# Altium schematic symbol library battery.SchLib: 21 symbols
Pins are listed as number, name and electrical type; pins without a type are passive.

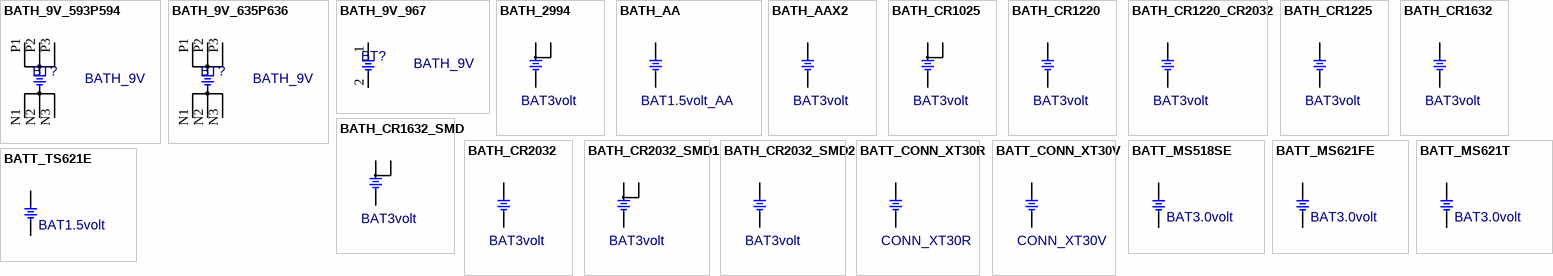
[diagram p0: symbols BATH_9V_593P594 to BATT_TS621E]

## BATH_9V_593P594
designator BT?, comment BATH_9V
BATTERY HOLDER, 9v; MANF_P#: 593, 594; MANF: Keystone; .: http://www.chila.ir; VALUE: BATH_9V
footprint BTH_9V_593P594 (BATTERY HOLDER, keystone 593, 594)
pins: N1, N2, N3, P1, P2, P3

## BATH_9V_635P636
designator BT?, comment BATH_9V
BATTERY HOLDER, 9v; MANF_P#: 635, 636; MANF: Keystone; .: http://www.chila.ir; VALUE: BATH_9V
footprint BTH_9V_635P636 (BATTERY HOLDER, keystone 635, 636)
pins: N1, N2, N3, P1, P2, P3

## BATH_9V_967
designator BT?, comment BATH_9V
BATTERY HOLDER, 9v; MANF_P#: 967; MANF: Keystone; .: http://www.chila.ir; VALUE: BATH_9V
footprint BTH_9V_967 (BATTERY HOLDER, keystone 967)
pins: 1, 2

## BATH_2994
designator BT?, comment BAT3volt
BATTERY HOLDER, 2994 COIN CELL 4.8mm; MANF_P#: 2994; MANF: KEYSTONE; .: http://www.chila.ir; VALUE: BAT3volt
footprint BTH2994 (BUTTON CELL BATTERY RETAINER 2994)
pins: 1, 2, 2

## BATH_AA
designator BT?, comment BAT1.5volt_AA
BATTERY HOLDER, AA; MANF_P#: Keystone 82; .: http://www.chila.ir; VALUE: BAT1.5volt_AA
footprint BTH_AA (Keystone 82)
footprint BTH_AA_2
pins: 1, 2

## BATH_AAX2
designator BT?, comment BAT3volt
BATTERY HOLDER, AA DUAL; MANF_P#: -; .: http://www.chila.ir; VALUE: BAT3volt
footprint BTH_AAX2 (2-cell AA battery holder)
pins: 1, 2

## BATH_CR1025
designator BT?, comment BAT3volt
BATTERY HOLDER, CR2032 SMD; MANF_P#: keystone 3050TR, MY-1025-01; .: http://www.chila.ir; VALUE: BAT3volt
footprint BTH1025_SMD (Battery Holder for CR1025, and CR927, keystone 3050TR)
pins: 1 P1, 2 N, 3 P2

## BATH_CR1220
designator BT?, comment BAT3volt
BATTERY HOLDER, CR1220; MANF_P#: -; .: http://www.chila.ir; VALUE: BAT3volt
footprint BTH1220 (COIN CELL BATTERY HOLDER 1220 12mm)
pins: 1, 2

## BATH_CR1220_CR2032
designator BT?, comment BAT3volt
BATTERY HOLDER, CR1220/CR2032; MANF_P#: -; .: http://www.chila.ir; VALUE: BAT3volt
footprint BTH1220_2032 (COIN CELL BATTERY HOLDER 1220 12mm CR2032)
pins: 1, 2

## BATH_CR1225
designator BT?, comment BAT3volt
BATTERY HOLDER, CR1225; MANF_P#: -; .: http://www.chila.ir; VALUE: BAT3volt
footprint BTH1225_SMD (Battery Holder CR1216, CR1220, CR1225,  BK-885)
pins: 1, 2

## BATH_CR1632
designator BT?, comment BAT3volt
BATTERY HOLDER, CR1632 CR1620 CR1616; MANF_P#: BH600; .: http://www.chila.ir; VALUE: BAT3volt
footprint BTH1632_BH600 (Battery Holder BH600 CR1632 CR1620 CR1616)
pins: 1, 2

## BATH_CR1632_SMD
designator BT?, comment BAT3volt
BATTERY HOLDER, CR1632 CR1620 CR1616; MANF_P#: BH600; .: http://www.chila.ir; VALUE: BAT3volt
footprint BTH1632_SMD (Battery Holder CR1632, KEYSTONE 3012TR or 3013)
pins: 1 P1, 2 N, 3 P2

## BATH_CR2032
designator BT?, comment BAT3volt
BATTERY HOLDER, CR2032; MANF_P#: -; .: http://www.chila.ir; VALUE: BAT3volt
footprint BTH2032 (CR2032 BATTERY HOLDER)
pins: 1, 2

## BATH_CR2032_SMD1
designator BT?, comment BAT3volt
BATTERY HOLDER, CR2032 SMD; MANF_P#: -; .: http://www.chila.ir; VALUE: BAT3volt
footprint BTH2032_SMD1 (COIN CELL BATTERY HOLDER 2032 20mm KEYSTONE3002)
pins: 1 P1, 2 N, 3 P2

## BATH_CR2032_SMD2
designator BT?, comment BAT3volt
BATTERY HOLDER, CR2032 SMD; MANF_P#: -; .: http://www.chila.ir; VALUE: BAT3volt
footprint BTH2032_SMD2
pins: 1, 2

## BATT_CONN_XT30R
designator BT?, comment CONN_XT30R
BATTERY, CONN_XT30R; MANF: SEIKO; MANF_P#: -; MANF_P#2: -; .: http://www.chila.ir; PARAM: -; PARAM2: -; VALUE: CONN_XT30R
footprint BT_CONN_XT30R (BATTERY CONN XT30)
pins: 1, 2

## BATT_CONN_XT30V
designator BT?, comment CONN_XT30V
BATTERY, CONN_XT30V; MANF: SEIKO; MANF_P#: -; MANF_P#2: -; .: http://www.chila.ir; PARAM: -; PARAM2: -; VALUE: CONN_XT30V
footprint BT_CONN_XT30V (BATTERY CONN XT30)
pins: 1, 2

## BATT_MS518SE
designator BT?, comment BAT3.0volt
BATTERY, Lithium, Rechargeable, 6.8mm; MANF_P#: MS518SE; MANF: SEIKO; PARAM: 3.4mAH, 10uA charge/discharge; PARAM2: 3V, -20~60°C; .: http://www.chila.ir; VALUE: BAT3.0volt
footprint BT_XS518 (BATTERY SEIKO, MS518FE TS518FE, 5.8x1.8)
pins: 1, 2

## BATT_MS621FE
designator BT?, comment BAT3.0volt
BATTERY, Lithium, Rechargeable, 6.8mm; MANF_P#: MS621FE; MANF: SEIKO; PARAM: 5.5mAH, 15uA charge/discharge; PARAM2: 3V, -20~60°C; .: http://www.chila.ir; VALUE: BAT3.0volt
footprint BT_XS621 (BATTERY SEIKO,MS621FE, MS621T, TS621E, TS621FE  6.8x2.1mm)
pins: 1, 2

## BATT_MS621T
designator BT?, comment BAT3.0volt
BATTERY, Lithium, Rechargeable, 6.8mm; MANF_P#: MS621T; MANF: SEIKO; PARAM: 3mAH, 15uA charge/discharge; PARAM2: 3V, -40~85°C; .: http://www.chila.ir; VALUE: BAT3.0volt
footprint BT_XS621 (BATTERY SEIKO,MS621FE, MS621T, TS621E, TS621FE  6.8x2.1mm)
pins: 1, 2

## BATT_TS621E
designator BT?, comment BAT1.5volt
BATTERY, Lithium, Rechargeable, 6.8mm; MANF_P#: TS621E; MANF: SEIKO; PARAM: 2.5mAH, 15uA charge/discharge; PARAM2: 1.5V, -20~60°C; .: http://www.chila.ir; VALUE: BAT1.5volt
footprint BT_XS621 (BATTERY SEIKO,MS621FE, MS621T, TS621E, TS621FE  6.8x2.1mm)
pins: 1, 2